# EAGLE library part JF2 (library Bulkhead Flight Computer)
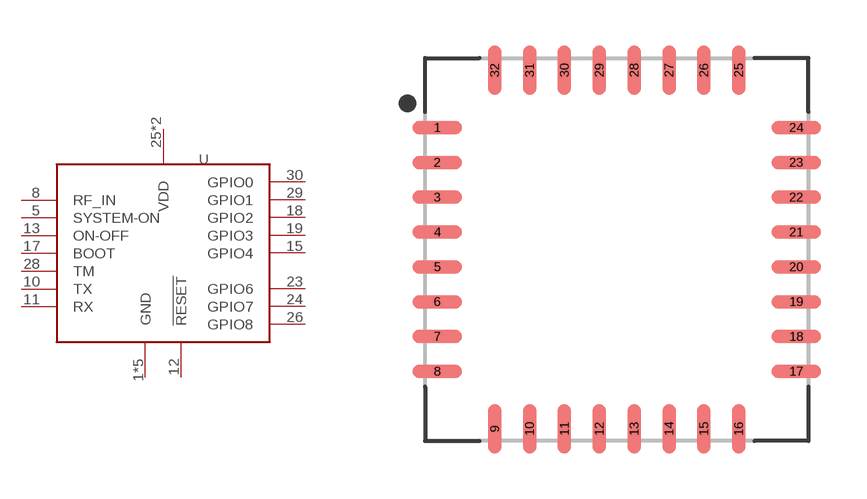
[diagram p4: symbol with the pads of QFN100P1100X1100X100-32; footprint QFN100P1100X1100X100-32]

Designator prefix U

## JF2  [QFN100P1100X1100X100-32]
1  GND  pas
5  SYSTEM-ON
7  GND  pas
8  RF_IN
9  GND  pas
10  TX
11  RX
12  !RESET
13  ON-OFF
15  GPIO4
17  BOOT
18  GPIO2
19  GPIO3
21  GND  pas
23  GPIO6
24  GPIO7
25  VDD  pwr
26  GPIO8
28  TM
29  GPIO1
30  GPIO0
31  GND  pas
32  VDD  pwr

## Footprint QFN100P1100X1100X100-32 (pad centres in mm)
32-QFN, 1.00 mm pitch, 11.00 X 11.00 X 1.00 mm body 32-pin QFN package with 1.00 mm pitch with body size 11.00 X 11.00 X 1.00 mm
smd 1.412 x 0.382: 1 -5.15,3.5; 2 -5.15,2.5; 3 -5.15,1.5; 4 -5.15,0.5; 5 -5.15,-0.5; 6 -5.15,-1.5; 7 -5.15,-2.5; 8 -5.15,-3.5; 17 5.15,-3.5; 18 5.15,-2.5; 19 5.15,-1.5; 20 5.15,-0.5; 21 5.15,0.5; 22 5.15,1.5; 23 5.15,2.5; 24 5.15,3.5
smd 0.382 x 1.412: 9 -3.5,-5.15; 10 -2.5,-5.15; 11 -1.5,-5.15; 12 -0.5,-5.15; 13 0.5,-5.15; 14 1.5,-5.15; 15 2.5,-5.15; 16 3.5,-5.15; 25 3.5,5.15; 26 2.5,5.15; 27 1.5,5.15; 28 0.5,5.15; 29 -0.5,5.15; 30 -1.5,5.15; 31 -2.5,5.15; 32 -3.5,5.15